# Altium footprint library PCB1.PcbLib: 74 footprints (part 4 of 5)
Each footprint in its own frame and in the unit in brackets; x right, y up, seen from the top. Pads: shape width x height; smd on the part's side, far side on the other; paste and mask are expansions set on the pad; w line width, h text height; cw(c..) or ccw(c..) is an arc to the next point about the centre after c.
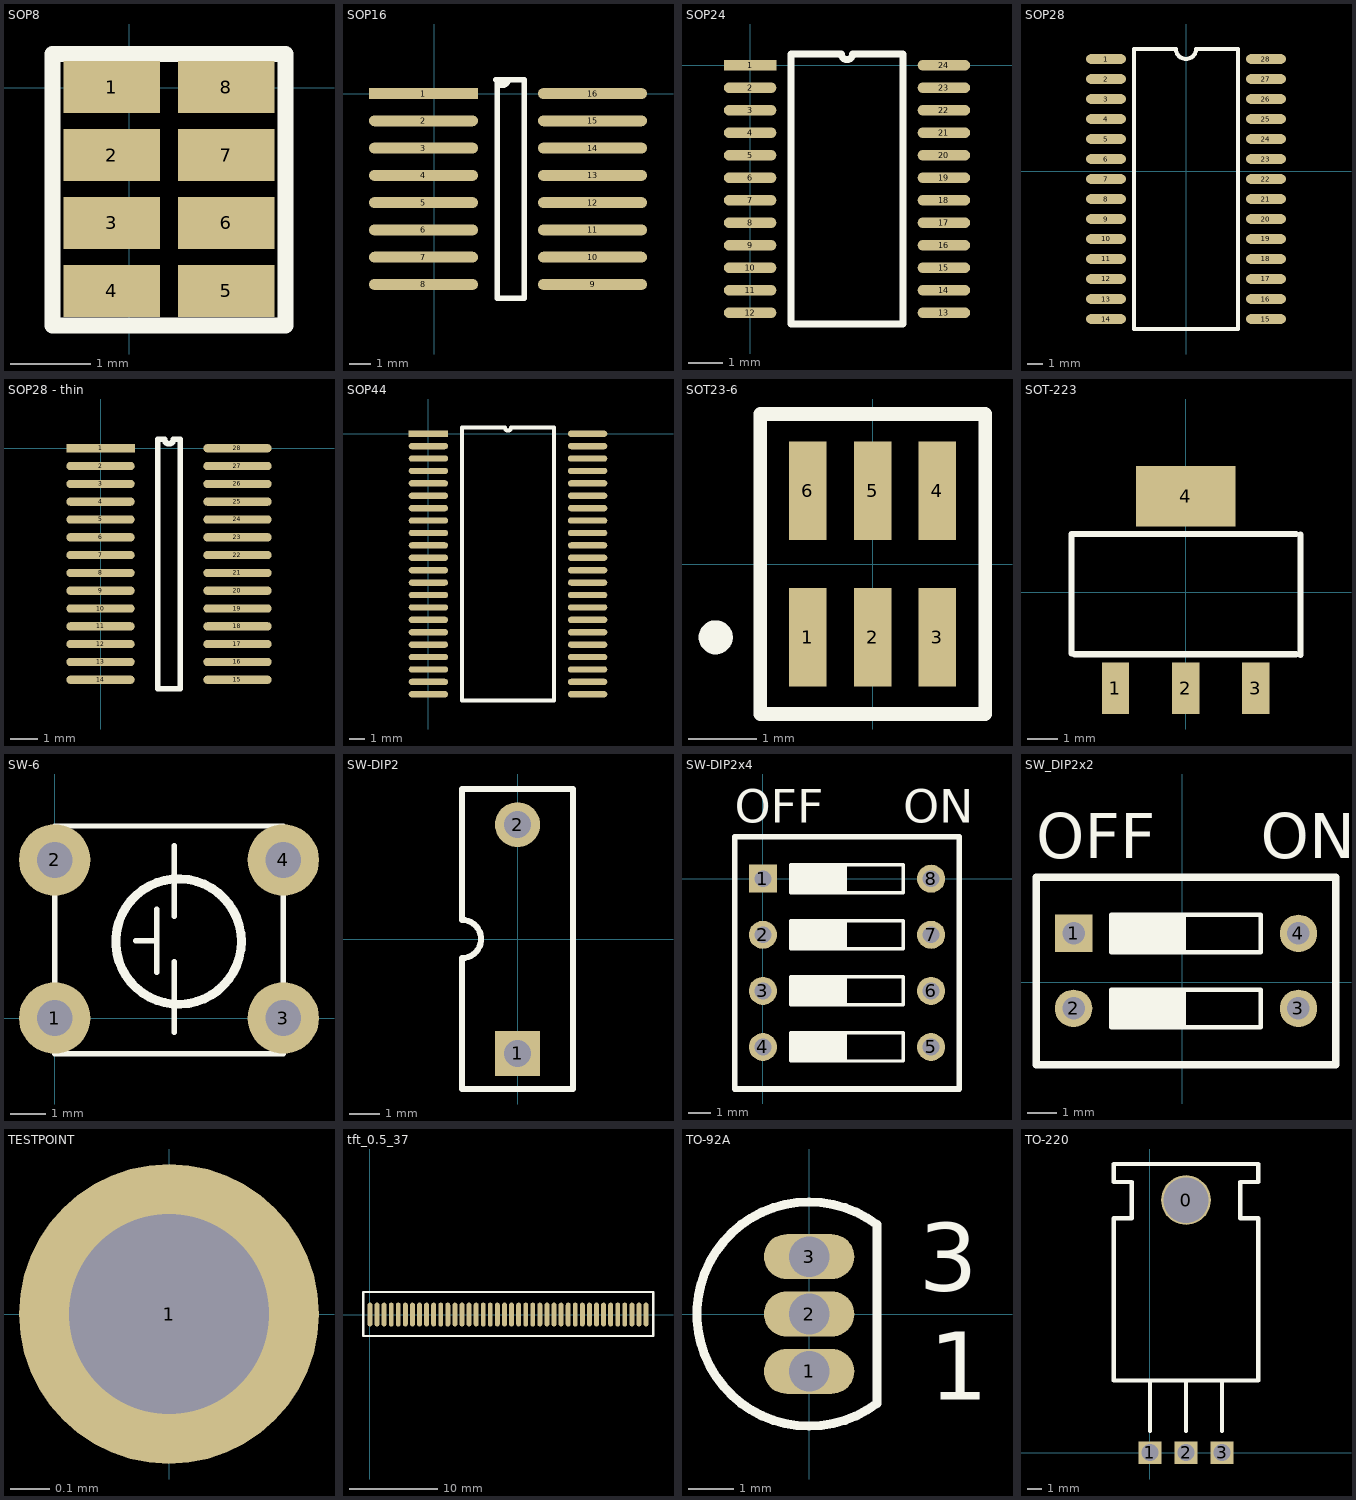
[diagram p3: the footprints below, top view; thin cyan lines are the x and y axes]

## SOP8 [mm]
pads (8):
  rect 1.2x0.65 smd: 1(-0.22,0.01) 2(-0.22,-0.836) 3(-0.22,-1.682) 4(-0.22,-2.528) 5(1.21,-2.528) 6(1.21,-1.682) 7(1.21,-0.836) 8(1.21,0.01)
Top Overlay:
  lines w0.2: 0.289,0.423 1.948,0.423 1.948,-2.961 -0.958,-2.961 -0.958,0.423 0.711,0.423

## SOP16 [mil]
pads (16):
  rect 200x20 smd: 1(-20,0)
  oval 200x20 smd: 2(-20,-50) 3(-20,-100) 4(-20,-150) 5(-20,-200) 6(-20,-250) 7(-20,-300) 8(-20,-350) 9(290,-350) 10(290,-300) 11(290,-250) 12(290,-200) 13(290,-150) 14(290,-100) 15(290,-50) 16(290,0)
Top Overlay:
  lines w10: 112.5,25 165,25 165,-375 115,-375 115,25 ; 135,25 cw(c125,25) 115,25 ; 137.5,25 115,25

## SOP24 [mm]
pads (24):
  rect 1.516x0.3 smd: 1(0,0)
  oval 1.516x0.3 smd: 2(0,-0.65) 3(0,-1.3) 4(0,-1.95) 5(0,-2.6) 6(0,-3.25) 7(0,-3.9) 8(0,-4.55) 9(0,-5.2) 10(0,-5.85) 11(0,-6.5) 12(0,-7.15) 13(5.6,-7.15) 14(5.6,-6.5) 15(5.6,-5.85) 16(5.6,-5.2) 17(5.6,-4.55) 18(5.6,-3.9) 19(5.6,-3.25) 20(5.6,-2.6) 21(5.6,-1.95) 22(5.6,-1.3) 23(5.6,-0.65) 24(5.6,0)
Top Overlay:
  lines w0.2: 1.185,-7.475 4.415,-7.475 4.415,0.325 2.962,0.325 cw(c2.8,0.325) 2.638,0.325 1.185,0.325 1.185,-7.475

## SOP28 [mil]
pads (28):
  oval 100x24 smd: 1(-201,280) 2(-201,230) 3(-201,180) 4(-201,130) 5(-201,80) 6(-201,30) 7(-201,-20) 8(-201,-70) 9(-201,-120) 10(-201,-170) 11(-201,-220) 12(-201,-270) 13(-201,-320) 14(-201,-370) 15(199,-370) 16(199,-320) 17(199,-270) 18(199,-220) 19(199,-170) 20(199,-120) 21(199,-70) 22(199,-20) 23(199,30) 24(199,80) 25(199,130) 26(199,180) 27(199,230) 28(199,280)
Top Overlay:
  lines w10: -131,-395 -131,305 -26,305 ccw(c-1,305) 24,305 129,305 129,-395 -131,-395

## SOP28 - thin [mm]
pads (28):
  rect 2.5x0.3 smd: 1(0,0)
  oval 2.5x0.3 smd: 2(0,-0.65) 3(0,-1.3) 4(0,-1.95) 5(0,-2.6) 6(0,-3.25) 7(0,-3.9) 8(0,-4.55) 9(0,-5.2) 10(0,-5.85) 11(0,-6.5) 12(0,-7.15) 13(0,-7.8) 14(0,-8.45) 15(5,-8.45) 16(5,-7.8) 17(5,-7.15) 18(5,-6.5) 19(5,-5.85) 20(5,-5.2) 21(5,-4.55) 22(5,-3.9) 23(5,-3.25) 24(5,-2.6) 25(5,-1.95) 26(5,-1.3) 27(5,-0.65) 28(5,0)
Top Overlay:
  lines w0.2: 2.085,-8.775 2.085,0.325 2.338,0.325 ccw(c2.5,0.325) 2.662,0.325 2.915,0.325 2.915,-8.775 2.085,-8.775

## SOP44 [mil]
pads (44):
  rect 100x16 smd: 1(0,0)
  oval 100x16 smd: 2(0,-31.5) 3(0,-63) 4(0,-94.5) 5(0,-126) 6(0,-157.5) 7(0,-189) 8(0,-220.5) 9(0,-252) 10(0,-283.5) 11(0,-315) 12(0,-346.5) 13(0,-378) 14(0,-409.5) 15(0,-441) 16(0,-472.5) 17(0,-504) 18(0,-535.5) 19(0,-567) 20(0,-598.5) 21(0,-630) 22(0,-661.5) 23(404,-661.5) 24(404,-630) 25(404,-598.5) 26(404,-567) 27(404,-535.5) 28(404,-504) 29(404,-472.5) 30(404,-441) 31(404,-409.5) 32(404,-378) 33(404,-346.5) 34(404,-315) 35(404,-283.5) 36(404,-252) 37(404,-220.5) 38(404,-189) 39(404,-157.5) 40(404,-126) 41(404,-94.5) 42(404,-63) 43(404,-31.5) 44(404,0)
Top Overlay:
  lines w10: 85,-677.25 319,-677.25 319,15.75 209.88,15.75 cw(c202,15.75) 194.12,15.75 85,15.75 85,-677.25

## SOT23-6 [mm] "SOT-457/SC-74; 6 Leads; Body 3 x 3 mm, inc. leads (LxW max)"
height 1.45
pads (6):
  rect 0.55x1.45 smd: 1(-0.95,-1.075) 2(0,-1.075) 3(0.95,-1.075) 4(0.95,1.075) 5(0,1.075) 6(-0.95,1.075)
Top Overlay:
  circle w0.25: c-2.3,-1.075 r0.125
  lines w0.2: -1.65,-2.2 -1.65,2.2 1.65,2.2 1.65,-2.2 -1.65,-2.2

## SOT-223 [mm]
pads (4):
  rect 0.9x1.7 smd: 1(-2.311,-3.162) 2(0,-3.162) 3(2.311,-3.162)
  rect 3.28x2 smd: 4(0,3.162)
Top Overlay:
  lines w0.203: -3.759,-2.019 -3.759,1.918 3.632,1.918 ; -3.658,-2.045 3.632,-2.045 ; 3.785,-2.07 3.785,1.892

## SW-6 [mil]
pads (4):
  round 80 hole 40: 1(0,0) 2(0,177) 3(256,0) 4(256,177)
Top Overlay:
  circle w10: c138.74,85.67 r70.27
  lines w6: 90.55,86.61 114.17,86.61 ; 114.17,51.18 114.17,122.05 ; 133.86,-15.75 133.86,62.99 ; 133.86,114.17 133.86,192.91 ; 0,-40 256,-40 256,215 0,215 0,-40

## SW-DIP2 [mm] "DIP; 4 Leads; Row Spacing 7.62 mm; Pitch 2.54 mm"
height 2.13
pads (2):
  rect 1.5x1.5 hole 0.9: 1(0,-3.81)
  round 1.5 hole 0.9: 2(0,3.81)
Top Overlay:
  lines w0.2: -1.85,-5 -1.85,-0.635 ccw(c-1.85,0) -1.85,0.635 -1.85,5 1.85,5 1.85,-5 -1.85,-5

## SW-DIP2x4 [mil]
pads (8):
  rect 50x50 hole 30: 1(0,0)
  round 50 hole 30: 2(0,-100) 3(0,-200) 4(0,-300) 5(300,-300) 6(300,-200) 7(300,-100) 8(300,0)
Top Overlay:
  rectangle: 50,-325 150,-275
  rectangle: 50,-225 150,-175
  rectangle: 50,-125 150,-75
  rectangle: 50,-25 150,25
  lines w6: 50,-325 50,-275 ; 50,-325 50,-275 ; 50,-325 250,-325 250,-275 50,-275 ; 50,-225 50,-175 ; 50,-225 50,-175 ; 50,-225 250,-225 250,-175 50,-175 ; 50,-125 50,-75 ; 50,-125 50,-75 ; 50,-125 250,-125 250,-75 50,-75 ; 50,-25 50,25 ; 50,-25 50,25 ; 50,-25 250,-25 250,25 50,25
  lines w10: -50,-375 -50,75 350,75 350,-375 -50,-375
  text "OFF" at -50,100 h60
  text "ON" at 250,100 h60

## SW_DIP2x2 [mil]
pads (4):
  rect 50x50 hole 30: 1(-145,65)
  round 50 hole 30: 2(-145,-35) 3(155,-35) 4(155,65)
Top Overlay:
  rectangle: -95,40 5,90
  rectangle: -95,-60 5,-10
  lines w6: -95,-60 105,-60 105,-10 -95,-10 ; -95,-60 -95,-10 ; -95,-60 -95,-10 ; -95,40 105,40 105,90 -95,90 ; -95,40 -95,90 ; -95,40 -95,90
  lines w10: -195,-110 -195,140 205,140 205,-110 -195,-110
  text "ON" at 105,165 h60
  text "OFF" at -195,165 h60

## TESTPOINT [mil]
pads (1):
  round 30 hole 20: 1(0,0)

## tft_0.5_37 [mm] "529"
pads (40):
  oval 0.55x2.7 smd: 1(0,0) 2(0.8,0) 3(1.6,0) 4(2.4,0) 5(3.2,0) 6(4,0) 7(4.8,0) 8(5.6,0) 9(6.4,0) 10(7.2,0) 11(8,0) 12(8.8,0) 13(9.6,0) 14(10.4,0) 15(11.2,0) 16(12,0) 17(12.8,0) 18(13.6,0) 19(14.4,0) 20(15.2,0) 21(16,0) 22(16.8,0) 23(17.6,0) 24(18.4,0) 25(19.2,0) 26(20,0) 27(20.8,0) 28(21.6,0) 29(22.4,0) 30(23.2,0) 31(24,0) 32(24.8,0) 33(25.6,0) 34(26.4,0) 35(27.2,0) 36(28,0) 37(28.8,0) 38(29.6,0) 39(30.4,0) 40(31.2,0)
Top Overlay:
  lines w0.254: -0.762,-2.413 32.004,-2.413 32.004,2.54 -0.762,2.54 -0.762,-2.413

## TO-92A [mm] "TO, Flat Index; 3 In-Line, Axial Leads; Body Dia. 4.5mm; Leads 0.51 x 0.48 mm (max)"
height 6.86
pads (3):
  oval 2x1 hole 0.9: 1(0,-1.27) 2(0,0) 3(0,1.27)
Top Overlay:
  lines w0.2: 1.5,-1.98 cw(c0,0) 1.5,1.98 1.5,-1.98
  text "3" at 2.43,0.51 h1.5
  text "1" at 2.66,-1.9 h1.5

## TO-220 [mm]
pads (4):
  round 3.5 hole 3.2: 0(2.54,17.78)
  rect 1.6x1.6 hole 1.2: 1(0,0) 2(2.54,0) 3(5.08,0)
Top Overlay:
  lines w0.305: 0,1.524 0,5.08 ; 2.54,1.524 2.54,5.08 ; 5.08,1.524 5.08,5.08 ; -2.54,5.08 -2.54,16.51 -1.27,16.51 -1.27,19.05 -2.54,19.05 -2.54,20.32 7.62,20.32 7.62,19.05 6.35,19.05 6.35,16.51 7.62,16.51 7.62,5.08 -2.54,5.08